# Altium schematic symbol library ZGR_SCHLib.SchLib: 77 symbols
Pins are listed as number, name and electrical type; pins without a type are passive.

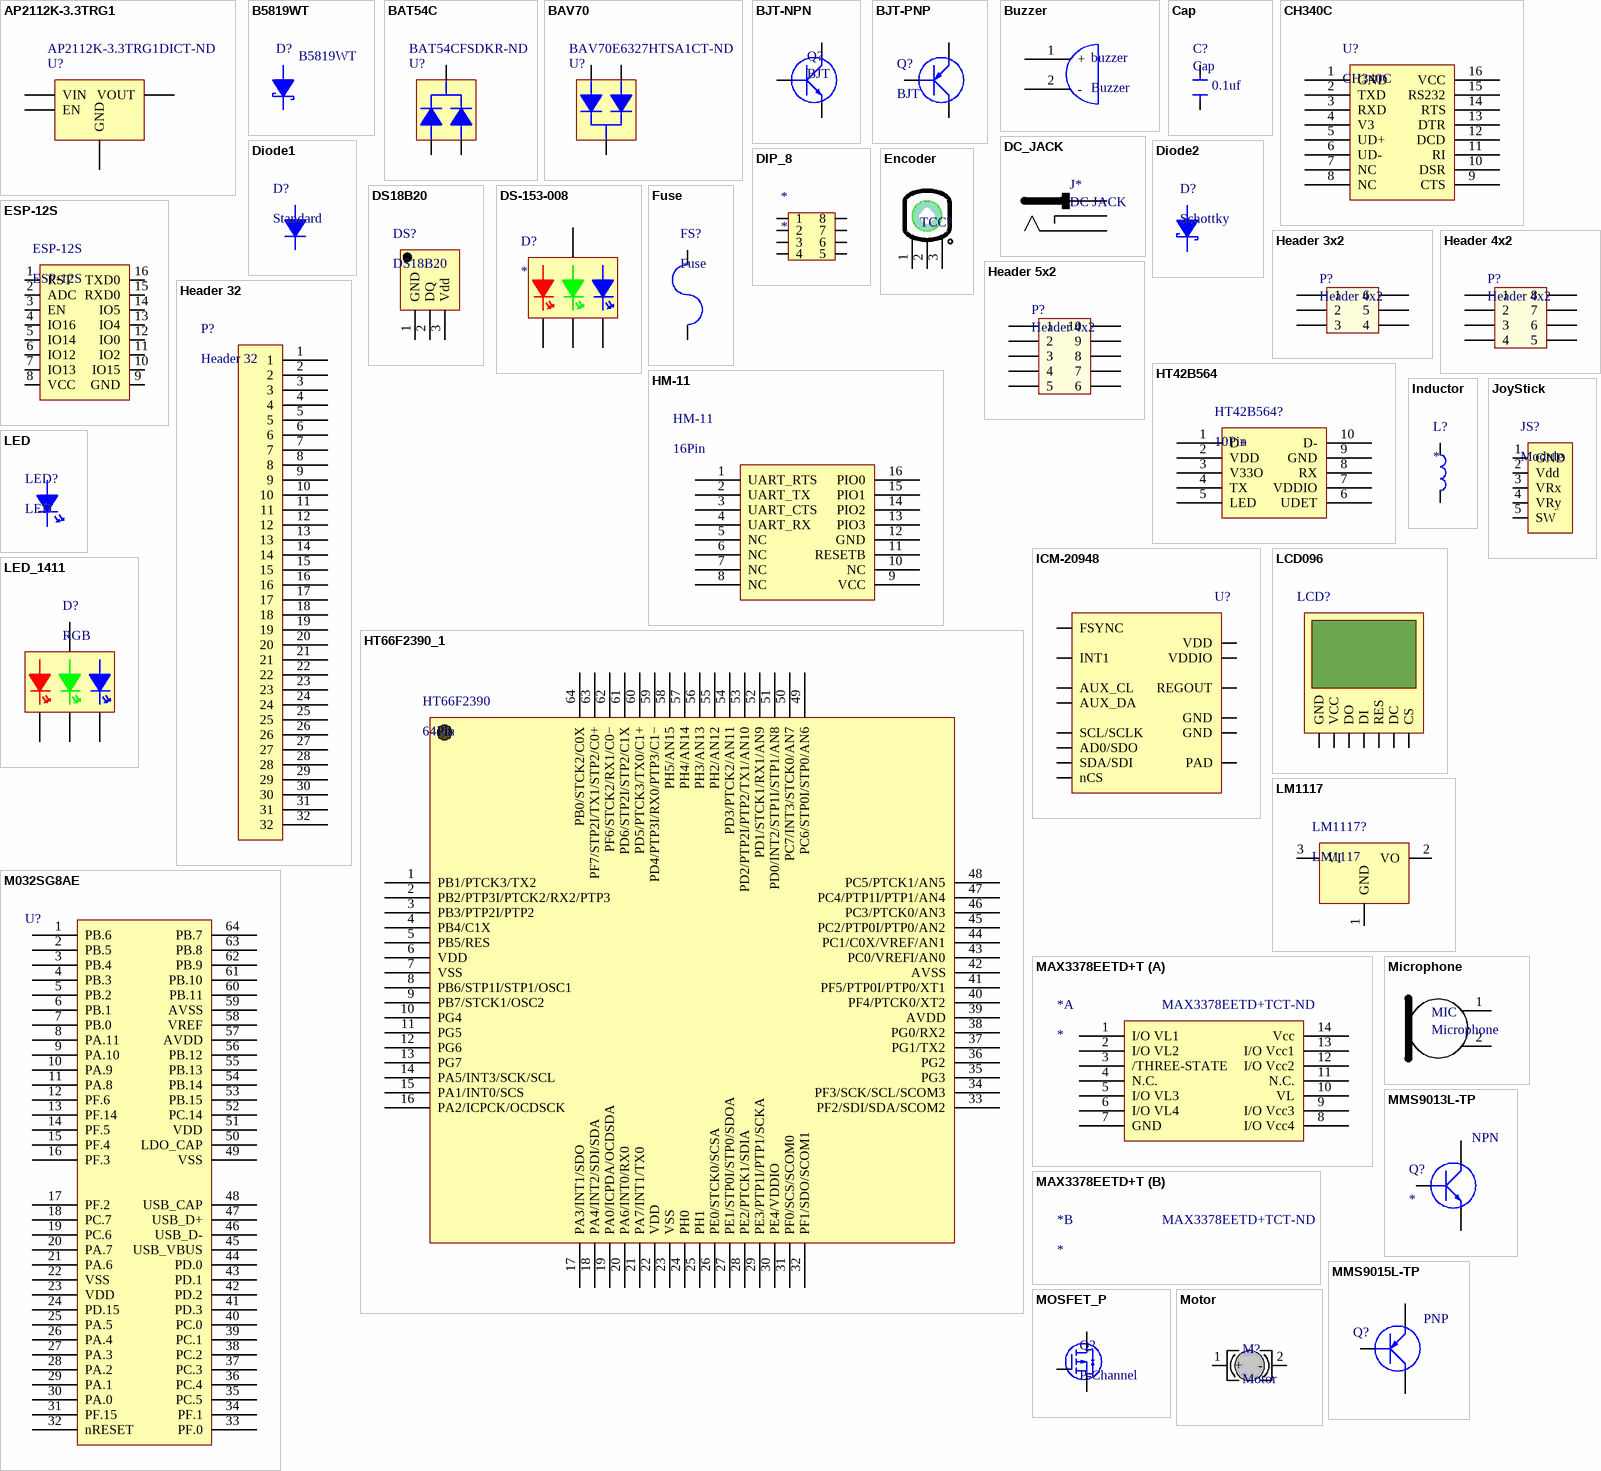
[diagram p0: symbols AP2112K-3.3TRG1 to Motor]

## AP2112K-3.3TRG1
designator U?  Supplier Part Number 1: AP2112K-3.3TRG1DICT-ND  (hidden comment: *)
IC REG LINEAR 3.3V 600MA SOT23-5; Manufacturer: Diodes; Manufacturer Part Number: AP2112K-3.3TRG1; Number of Regulators: 1; Quiescent Current: 55uA; Polarity: Positive; Max Input Voltage: 6V; Min Input Voltage: 2.5V; Accuracy: 1.5%; Dropout Voltage: 250mV; Output Type: Fixed; Supplier 1: Digi-Key; RoHS: Yes; Category: Voltage Regulators - Linear; Stock 1: 54786; Pricing 1: 1=0.47000, 10=0.35500, 25=0.32000, 100=0.17450, 250=0.16872, 500=0.15126, 1000=0.11636 (USD); Mount: Surface Mount; Case/Package: SOT-23-5; Number of Pins: 5; Min Operating Temperature: -40°C; Max Operating Temperature: 85°C; Output Current: 600mA; Max Output Current: 600mA; Output Voltage: 3.3V; Number of Outputs: 1; Package Quantity: 1; Packaging: Tape and Reel; Length: 3.1mm; Height: 1.3mm; Width: 1.7mm; Lead Free: Lead Free; ComponentLink1URL: https://datasheet.ciiva.com/29569/ap2112-29569919.pdf?src-supplier=Digi-Key; ComponentLink1Description: https://datasheet.ciiva.com/29569/ap2112-29569919.pdf?src-supplier=Digi-Key; ComponentLink2URL: https://datasheet.ciiva.com/30016/ap2112-30016792.pdf?src-supplier=Avnet; ComponentLink2Description: https://datasheet.ciiva.com/30016/ap2112-30016792.pdf?src-supplier=Avnet; ComponentLink3URL: https://datasheet.ciiva.com/29569/ap2112-29569917.pdf?src-supplier=Digi-Key; ComponentLink3Description: https://datasheet.ciiva.com/29569/ap2112-29569917.pdf?src-supplier=Digi-Key; ComponentLink4URL: https://datasheet.ciiva.com/29569/ap2112-29569918.pdf?src-supplier=Digi-Key; ComponentLink4Description: https://datasheet.ciiva.com/29569/ap2112-29569918.pdf?src-supplier=Digi-Key
footprint SOT23-5; pin to pad 2>3 3>2 4>5
pins: 1 VIN (power), 2 EN, 3 GND (power), 4 VOUT (power)

## B5819WT
designator D?  Supplier Part Number 1: B5819WT  (hidden comment: *)
Diode Schottky 40V 1A 2-Pin SOD-523 T/R; Manufacturer: MCC; Manufacturer Part Number: B5819W-TP; Max Reverse Voltage (DC): 20V; Element Configuration: Single; Forward Voltage: 550mV; Max Forward Surge Current (Ifsm): 10A; Peak Reverse Current: 1mA; Max Power Dissipation: 250mW; Supplier 1: Digi-Key; RoHS: Yes; Category: Rectifier Diodes; Stock 1: 1380; Pricing 1: 1=0.38000, 10=0.28000, 25=0.24520, 100=0.13300, 250=0.13232, 500=0.10850, 1000=0.08050 (USD); Mount: Surface Mount; Min Operating Temperature: -65°C; Max Operating Temperature: 125°C; Reverse Voltage (DC): 40V; Average Rectified Current: 1A; Package Quantity: 3000; Packaging: Tape and Reel; Forward Current: 1A; Max Repetitive Reverse Voltage (Vrrm): 40V; ComponentLink1URL: https://datasheet.ciiva.com/6378/b5817w-b5819wsod-123-6378255.pdf?src-supplier=Digi-Key; ComponentLink1Description: https://datasheet.ciiva.com/6378/b5817w-b5819wsod-123-6378255.pdf?src-supplier=Digi-Key
footprint SOD-523 (SODFL, 2-Leads, Body 0.80x1.60mm, IPC Medium Density)
pins: 1, 2

## BAT54C
designator U?  Supplier Part Number 1: BAT54CFSDKR-ND  (hidden comment: *)
ON SEMICONDUCTOR - BAT54C - DIODO, SCHOTTKY, 0.2A, 30V, SMD; Manufacturer: NXP Semiconductors; Element Configuration: Common Cathode; Max Forward Surge Current (Ifsm): 600mA; Reverse Recovery Time: 5ns; Forward Voltage: 800mV; Forward Current: 200mA; Current Rating: 200A; Capacitance: 10pF; Supplier 1: Digi-Key; Manufacturer Part Number: BAT54C; RoHS: Yes; Category: Rectifier Diodes; Stock 1: 22; Pricing 1: 1=0.26000, 10=0.21000 (USD); Case/Package: SOT-23-3; Number of Pins: 3; Min Operating Temperature: -55°C; Max Operating Temperature: 150°C; Packaging: Tape and Reel; Max Repetitive Reverse Voltage (Vrrm): 30V; Voltage Rating (DC): 30V; Termination: SMD/SMT; Voltage: 30V; Lead Free: Lead Free; REACH SVHC: No SVHC; ComponentLink1URL: http://www.farnell.com/datasheets/2304092.pdf?src-supplier=Farnell; ComponentLink1Description: http://www.farnell.com/datasheets/2304092.pdf?src-supplier=Farnell; ComponentLink2URL: https://www.distrelec.biz/Web/Downloads/_t/ds/bat54-series_eng_tds.pdf?mime=application%2Fpdf&src-supplier=Distrelec; ComponentLink2Description: https://www.distrelec.biz/Web/Downloads/_t/ds/bat54-series_eng_tds.pdf?mime=application%2Fpdf&src-supplier=Distrelec; ComponentLink3URL: https://media.digikey.com/pdf/Data%20Sheets/ON%20Semiconductor%20PDFs/BAT54(A,C,S).pdf?src-supplier=Digi-Key; ComponentLink3Description: https://media.digikey.com/pdf/Data%20Sheets/ON%20Semiconductor%20PDFs/BAT54(A,C,S).pdf?src-supplier=Digi-Key
footprint SOT-23
pins: 1, 2, 3

## BAV70
designator U?  Supplier Part Number 1: BAV70E6327HTSA1CT-ND  (hidden comment: *)
BAV70 Series 85 V 200 mA Surface Mount Silicon Switching Diode - SOT-23-3; Manufacturer: Infineon; Element Configuration: Dual; Reverse Recovery Time: 4ns; Max Repetitive Reverse Voltage (Vrrm): 70V; Forward Current: 200mA; Forward Voltage: 1V; Peak Reverse Current: 150nA; Peak Non-Repetitive Surge Current: 4.5A; Max Power Dissipation: 250mW; Voltage: 80V; Supplier 1: Digi-Key; Manufacturer Part Number: BAV70; RoHS: Yes; Category: Rectifier Diodes; Stock 1: 104435; Pricing 1: 1=0.20000, 10=0.18600, 25=0.17760, 100=0.07810, 250=0.07496, 500=0.06134, 1000=0.04260 (USD); Case/Package: SOT; Number of Pins: 3; Min Operating Temperature: -65°C; Max Operating Temperature: 150°C; Packaging: Cut Tape; Max Reverse Voltage (DC): 70V; Max Forward Surge Current (Ifsm): 4.5A; Termination: SMD/SMT; Current: 200mA; Breakdown Voltage: 70V; Length: 2.9mm; Height: 1mm; Width: 1.3mm; REACH SVHC: No SVHC; ComponentLink1URL: https://datasheet.ciiva.com/14091/xz603651-14091262.pdf?src-supplier=Distrelec; ComponentLink1Description: https://datasheet.ciiva.com/14091/xz603651-14091262.pdf?src-supplier=Distrelec
footprint SOT-23
pins: 1, 2, 3

## BJT-NPN
designator Q?, comment BJT
Supplier 1: Arrow
footprint SOT-23
footprint TO-92A
pins: 1, 2, 3

## BJT-PNP
designator Q?, comment BJT
footprint SOT-23; pin to pad 1>2 2>1
pins: 1, 2, 3

## Buzzer
designator buzzer
footprint CEM-1212C
footprint HN9650B-3
pins: 1 +, 2 -

## Cap
designator C?  value 0.1uf
footprint CAP_22UF_25V_5*5.4mm_SMD
footprint Cap_0603
footprint CAP_0402
footprint CAP_1206
pins: 1, 2

## CH340C
designator U?
footprint SOP-16 (SOP, 16-Leads, Body 10.30x3.81mm, Pitch 1.27mm, IPC Medium Density)
footprint SOP127P600X265-16N (SOP, 16-Leads, Body 10.30x3.90mm, Pitch 1.27mm, IPC Medium Density)
pins: 1 GND, 2 TXD, 3 RXD, 4 V3, 5 UD+, 6 UD-, 7 NC, 8 NC, 9 CTS, 10 DSR, 11 RI, 12 DCD, 13 DTR, 14 RTS, 15 RS232, 16 VCC

## DC_JACK
designator J*, comment DC JACK
footprint DC_JACK_2.5mm
pins: 1, 2, 3

## Diode1
designator D?, comment Standard
footprint SOD-80
pins: 1, 2

## Diode2
designator D?, comment Schottky
footprint SMA
footprint SOD-523 (SODFL, 2-Leads, Body 0.80x1.60mm, IPC Medium Density)
pins: 1, 2

## DIP_8
designator *
footprint DIP_8
pins: 1, 2, 3, 4, 5, 6, 7, 8

## DS18B20
designator DS?
footprint TO-92
pins: 1 GND, 2 DQ, 3 Vdd

## DS-153-008
designator D?
footprint LED_RGB_0603
pins: 1 G, 2 B, 3 Anode, 4 R

## Encoder
designator TCC?, comment TTC  (value not drawn)
footprint TTC_DECODER
pins: 1, 2, 3

## ESP-12S
designator ESP-12S
footprint ESP-12S
pins: 1 RST, 2 ADC, 3 EN, 4 IO16, 5 IO14, 6 IO12, 7 IO13, 8 VCC, 9 GND, 10 IO15, 11 IO2, 12 IO0, 13 IO4, 14 IO5, 15 RXD0, 16 TXD0

## Fuse
designator FS?
footprint 0805_PTC
pins: 1, 2

## Header 3x2
designator P?, comment Header 4x2
footprint Header_2.54_3*2
pins: 1, 2, 3, 4, 5, 6

## Header 4x2
designator P?
footprint Header_2.54_4*2
pins: 1, 2, 3, 4, 5, 6, 7, 8

## Header 5x2
designator P?, comment Header 4x2
footprint Header_2.54_5*2
pins: 1, 2, 3, 4, 5, 6, 7, 8, 9, 10

## Header 32
designator P?
footprint Header_2.54_32*1
footprint Header_2.54_32*2
pins: 1, 2, 3, 4, 5, 6, 7, 8, 9, 10, 11, 12, 13, 14, 15, 16, 17, 18, 19, 20, 21, 22, 23, 24, 25, 26, 27, 28, 29, 30, 31, 32

## HM-11
designator HM-11, comment 16Pin
footprint HM-11&13
pins: 1 UART_RTS, 2 UART_TX, 3 UART_CTS, 4 UART_RX, 5 NC, 6 NC, 7 NC, 8 NC, 9 VCC, 10 NC, 11 RESETB, 12 GND, 13 PIO3, 14 PIO2, 15 PIO1, 16 PIO0

## HT42B564
designator HT42B564?, comment 10Pin
footprint SOP-10
pins: 1 D+, 2 VDD, 3 V33O, 4 TX, 5 LED, 6 UDET, 7 VDDIO, 8 RX, 9 GND, 10 D-

## HT66F2390_1
designator HT66F2390, comment 64Pin
footprint HLQFP-64(7mm*7mm) (HLQFP64(7mm*7mm))
pins: 1 PB1/PTCK3/TX2, 2 PB2/PTP3I/PTCK2/RX2/PTP3, 3 PB3/PTP2I/PTP2, 4 PB4/C1X, 5 PB5/RES, 6 VDD, 7 VSS, 8 PB6/STP1I/STP1/OSC1, 9 PB7/STCK1/OSC2, 10 PG4, 11 PG5, 12 PG6, 13 PG7, 14 PA5/INT3/SCK/SCL, 15 PA1/INT0/SCS, 16 PA2/ICPCK/OCDSCK, 17 PA3/INT1/SDO, 18 PA4/INT2/SDI/SDA, 19 PA0/ICPDA/OCDSDA, 20 PA6/INT0/RX0, 21 PA7/INT1/TX0, 22 VDD, 23 VSS, 24 PH0, 25 PH1, 26 PE0/STCK0/SCSA, 27 PE1/STP0I/STP0/SDOA, 28 PE2/PTCK1/SDIA, 29 PE3/PTP1I/PTP1/SCKA, 30 PE4/VDDIO, 31 PF0/SCS/SCOM0, 32 PF1/SDO/SCOM1, 33 PF2/SDI/SDA/SCOM2, 34 PF3/SCK/SCL/SCOM3, 35 PG3, 36 PG2, 37 PG1/TX2, 38 PG0/RX2, 39 AVDD, 40 PF4/PTCK0/XT2, 41 PF5/PTP0I/PTP0/XT1, 42 AVSS, 43 PC0/VREFI/AN0, 44 PC1/C0X/VREF/AN1, 45 PC2/PTP0I/PTP0/AN2, 46 PC3/PTCK0/AN3, 47 PC4/PTP1I/PTP1/AN4, 48 PC5/PTCK1/AN5, 49 PC6/STP0I/STP0/AN6, 50 PC7/INT3/STCK0/AN7, 51 PD0/INT2/STP1I/STP1/AN8, 52 PD1/STCK1/RX1/AN9, 53 PD2/PTP2I/PTP2/TX1/AN10, 54 PD3/PTCK2/AN11, 55 PH2/AN12, 56 PH3/AN13, 57 PH4/AN14, 58 PH5/AN15, 59 PD4/PTP3I/RX0/PTP3/C1−, 60 PD5/PTCK3/TX0/C1+, 61 PD6/STP2I/STP2/C1X, 62 PF6/STCK2/RX1/C0−, 63 PF7/STP2I/TX1/STP2/C0+, 64 PB0/STCK2/C0X

## ICM-20948
designator U?  (value not drawn)
Accelerometer, Gyroscope, Magnetometer, 9 Axis Sensor IÂ²C, SPI Output; MF: TDK InvenSense; MP: ICM-20948; Availability: Unavailable; SnapEDA_Link: https://www.snapeda.com/parts/ICM-20948/TDK%20InvenSense/view-part/578927/?ref=snap; Price: None; Value: *; Package: QFN-24 InvenSense
footprint QFN_24_3X3
pins: 7 AUX_CL, 8 VDDIO, 9 AD0/SDO, 10 REGOUT, 11 FSYNC, 12 INT1, 13 VDD, 18 GND, 20 GND, 21 AUX_DA, 22 nCS, 23 SCL/SCLK, 24 SDA/SDI, 25 PAD

## Inductor
designator L?
footprint Inductor_0603
footprint CAP_0402
pins: 1, 2

## JoyStick
designator JS?, comment Module
footprint JoyStick_Module
pins: 1 GND, 2 Vdd, 3 VRx, 4 VRy, 5 SW

## LCD096
designator LCD?  (value not drawn)
footprint LCD096
pins: 1 GND, 2 VCC, 3 DO, 4 DI, 5 RES, 6 DC, 7 CS

## LED
designator LED?
footprint SMD-0603_LED
footprint LED_3mm_DIP
pins: 1, 2

## LED_1411
designator D?, comment RGB
footprint 1411_LED
pins: 1 Anode, 2 B, 3 R, 4 G

## LM1117
designator LM1117?
footprint SOT-223
pins: 1 GND, 2 VO, 3 VI

## M032SG8AE
designator U?  (value not drawn)
footprint MCU_LQFP_64_7x7
pins: 1 PB.6, 2 PB.5, 3 PB.4, 4 PB.3, 5 PB.2, 6 PB.1, 7 PB.0, 8 PA.11, 9 PA.10, 10 PA.9, 11 PA.8, 12 PF.6, 13 PF.14, 14 PF.5, 15 PF.4, 16 PF.3, 17 PF.2, 18 PC.7, 19 PC.6, 20 PA.7, 21 PA.6, 22 VSS, 23 VDD, 24 PD.15, 25 PA.5, 26 PA.4, 27 PA.3, 28 PA.2, 29 PA.1, 30 PA.0, 31 PF.15, 32 nRESET, 33 PF.0, 34 PF.1, 35 PC.5, 36 PC.4, 37 PC.3, 38 PC.2, 39 PC.1, 40 PC.0, 41 PD.3, 42 PD.2, 43 PD.1, 44 PD.0, 45 USB_VBUS, 46 USB_D-, 47 USB_D+, 48 USB_CAP, 49 VSS, 50 LDO_CAP, 51 VDD, 52 PC.14, 53 PB.15, 54 PB.14, 55 PB.13, 56 PB.12, 57 AVDD, 58 VREF, 59 AVSS, 60 PB.11, 61 PB.10, 62 PB.9, 63 PB.8, 64 PB.7

## MAX3378EETD+T
designator *  Supplier Part Number 1: MAX3378EETD+TCT-ND
MAXIM INTEGRATED PRODUCTS         MAX3378EETD+T             Low-Voltage Level Translator, 4 Input, 210 ns, 1.65 V to 5.5 V, TDFN-14; Low Level Output Current: 20uA; High Level Output Current: -20uA; Output Type: 3-STATE; Data Rate: 16Mbps; Max Supply Voltage: 5.5V; Min Supply Voltage: 1.65V; Propagation Delay: 15ns; Number of Channels: 4; Supplier 1: Digi-Key; Manufacturer: Maxim; Manufacturer Part Number: MAX3378EETD+T; RoHS: Yes; Category: Voltage Level Shifters; Stock 1: 17889; Pricing 1: 1=3.94000, 10=3.53400, 25=3.34120, 100=2.89580, 250=2.74724, 500=2.46510, 1000=2.14500 (USD); Number of Pins: 14; Min Operating Temperature: -40°C; Max Operating Temperature: 85°C; Logic Function: Translator; Packaging: Tape and Reel; Package Quantity: 1; Number of Bits: 4; Series: -; Number of Inputs: 4; Radiation Hardening: No; RoHS Compliant: Yes; REACH SVHC: Unknown; ComponentLink1URL: https://datasheet.ciiva.com/17370/max3372e-max3393e-17370087.pdf?src-supplier=Avnet+Europe; ComponentLink1Description: https://datasheet.ciiva.com/17370/max3372e-max3393e-17370087.pdf?src-supplier=Avnet+Europe; ComponentLink2URL: https://datasheet.ciiva.com/1900/max3372e-max3393e-1900076.pdf?src-supplier=Digi-Key; ComponentLink2Description: https://datasheet.ciiva.com/1900/max3372e-max3393e-1900076.pdf?src-supplier=Digi-Key; ComponentLink3URL: https://datasheet.ciiva.com/1900/max3372e-max3393e-1900078.pdf?src-supplier=Digi-Key; ComponentLink3Description: https://datasheet.ciiva.com/1900/max3372e-max3393e-1900078.pdf?src-supplier=Digi-Key; ComponentLink4URL: https://datasheet.ciiva.com/1900/max3372e-max3393e-1900077.pdf?src-supplier=Digi-Key; ComponentLink4Description: https://datasheet.ciiva.com/1900/max3372e-max3393e-1900077.pdf?src-supplier=Digi-Key; ComponentLink5URL: https://datasheet.ciiva.com/14287/max3372e-max3393e-14287422.pdf?src-supplier=Avnet; ComponentLink5Description: https://datasheet.ciiva.com/14287/max3372e-max3393e-14287422.pdf?src-supplier=Avnet
footprint SON40P300X265_HS-15N (SON, 14-Leads, Body 3.00x3.00mm, Pitch 0.40mm, Thermal Pad 2.30x1.70mm, IPC Medium Density)
part A pins: 1 I/O VL1, 2 I/O VL2, 3 /THREE-STATE, 4 N.C., 5 I/O VL3, 6 I/O VL4, 7 GND, 8 I/O Vcc4, 9 I/O Vcc3, 10 VL, 11 N.C., 12 I/O Vcc2, 13 I/O Vcc1, 14 Vcc

## Microphone
designator MIC
footprint MIC_6mm
pins: 1, 2

## MMS9013L-TP
designator Q?  Polarity: NPN
Trans GP BJT NPN 25V 0.5A 3-Pin SOT-23 T/R; Manufacturer: MCC; Manufacturer Part Number: MMS9013L-TP; Frequency: 150MHz; Number of Elements: 1; Collector Base Voltage (VCBO): 40V; Emitter Base Voltage (VEBO): 5V; Power Dissipation: 300mW; RoHS: Yes; Category: BJTs; Mount: Surface Mount; Case/Package: SOT-23; Number of Pins: 3; Min Operating Temperature: -55°C; Max Operating Temperature: 150°C; Packaging: Tape and Reel; Collector Emitter Voltage (VCEO): 25V; ComponentLink1URL: http://components.arrow.com/part/dataview/51062823S110403N2022?src-supplier=Arrow; ComponentLink1Description: http://components.arrow.com/part/dataview/51062823S110403N2022?src-supplier=Arrow; Supplier 1: Arrow; Supplier Part Number 1: MMS9013-L-TP
footprint SOT-23; pin to pad 1>3 2>1 3>2
pins: 1, 2, 3

## MMS9015L-TP
designator Q?  Polarity: PNP  (hidden comment: *)
Trans GP BJT PNP 45V 0.1A 3-Pin SOT-23 T/R; Manufacturer: MCC; Manufacturer Part Number: MMS9015L-TP; Frequency: 150MHz; Collector Base Voltage (VCBO): 50V; Emitter Base Voltage (VEBO): 5V; Number of Elements: 1; Power Dissipation: 200mW; Supplier 1: Future Electronics; RoHS: Yes; Category: Uncategorized; Mount: Surface Mount; Case/Package: SOT-23; Number of Pins: 3; Min Operating Temperature: -55°C; Max Operating Temperature: 150°C; Packaging: Tape and Reel; Collector Emitter Voltage (VCEO): 45V; Radiation Hardening: No; Lead Free: Lead Free; ComponentLink1URL: https://datasheet.ciiva.com/17380/mms9015l-tp-17380301.pdf?src-supplier=Future+Electronics; ComponentLink1Description: https://datasheet.ciiva.com/17380/mms9015l-tp-17380301.pdf?src-supplier=Future+Electronics; ComponentLink2URL: https://datasheet.ciiva.com/15200/getdatasheetpartid-692159-15200530.pdf?src-supplier=Verical; ComponentLink2Description: https://datasheet.ciiva.com/15200/getdatasheetpartid-692159-15200530.pdf?src-supplier=Verical; Supplier Part Number 1: MMS9015L-TP
footprint SOT-23; pin to pad 1>2 2>1
pins: 1, 2, 3

## MOSFET_P
designator Q?, comment P-Channel
footprint SOT-23; pin to pad 1>2 2>1
pins: 1, 2, 3

## Motor
designator M?
footprint vibrating_10mm
pins: 1 +, 2 -

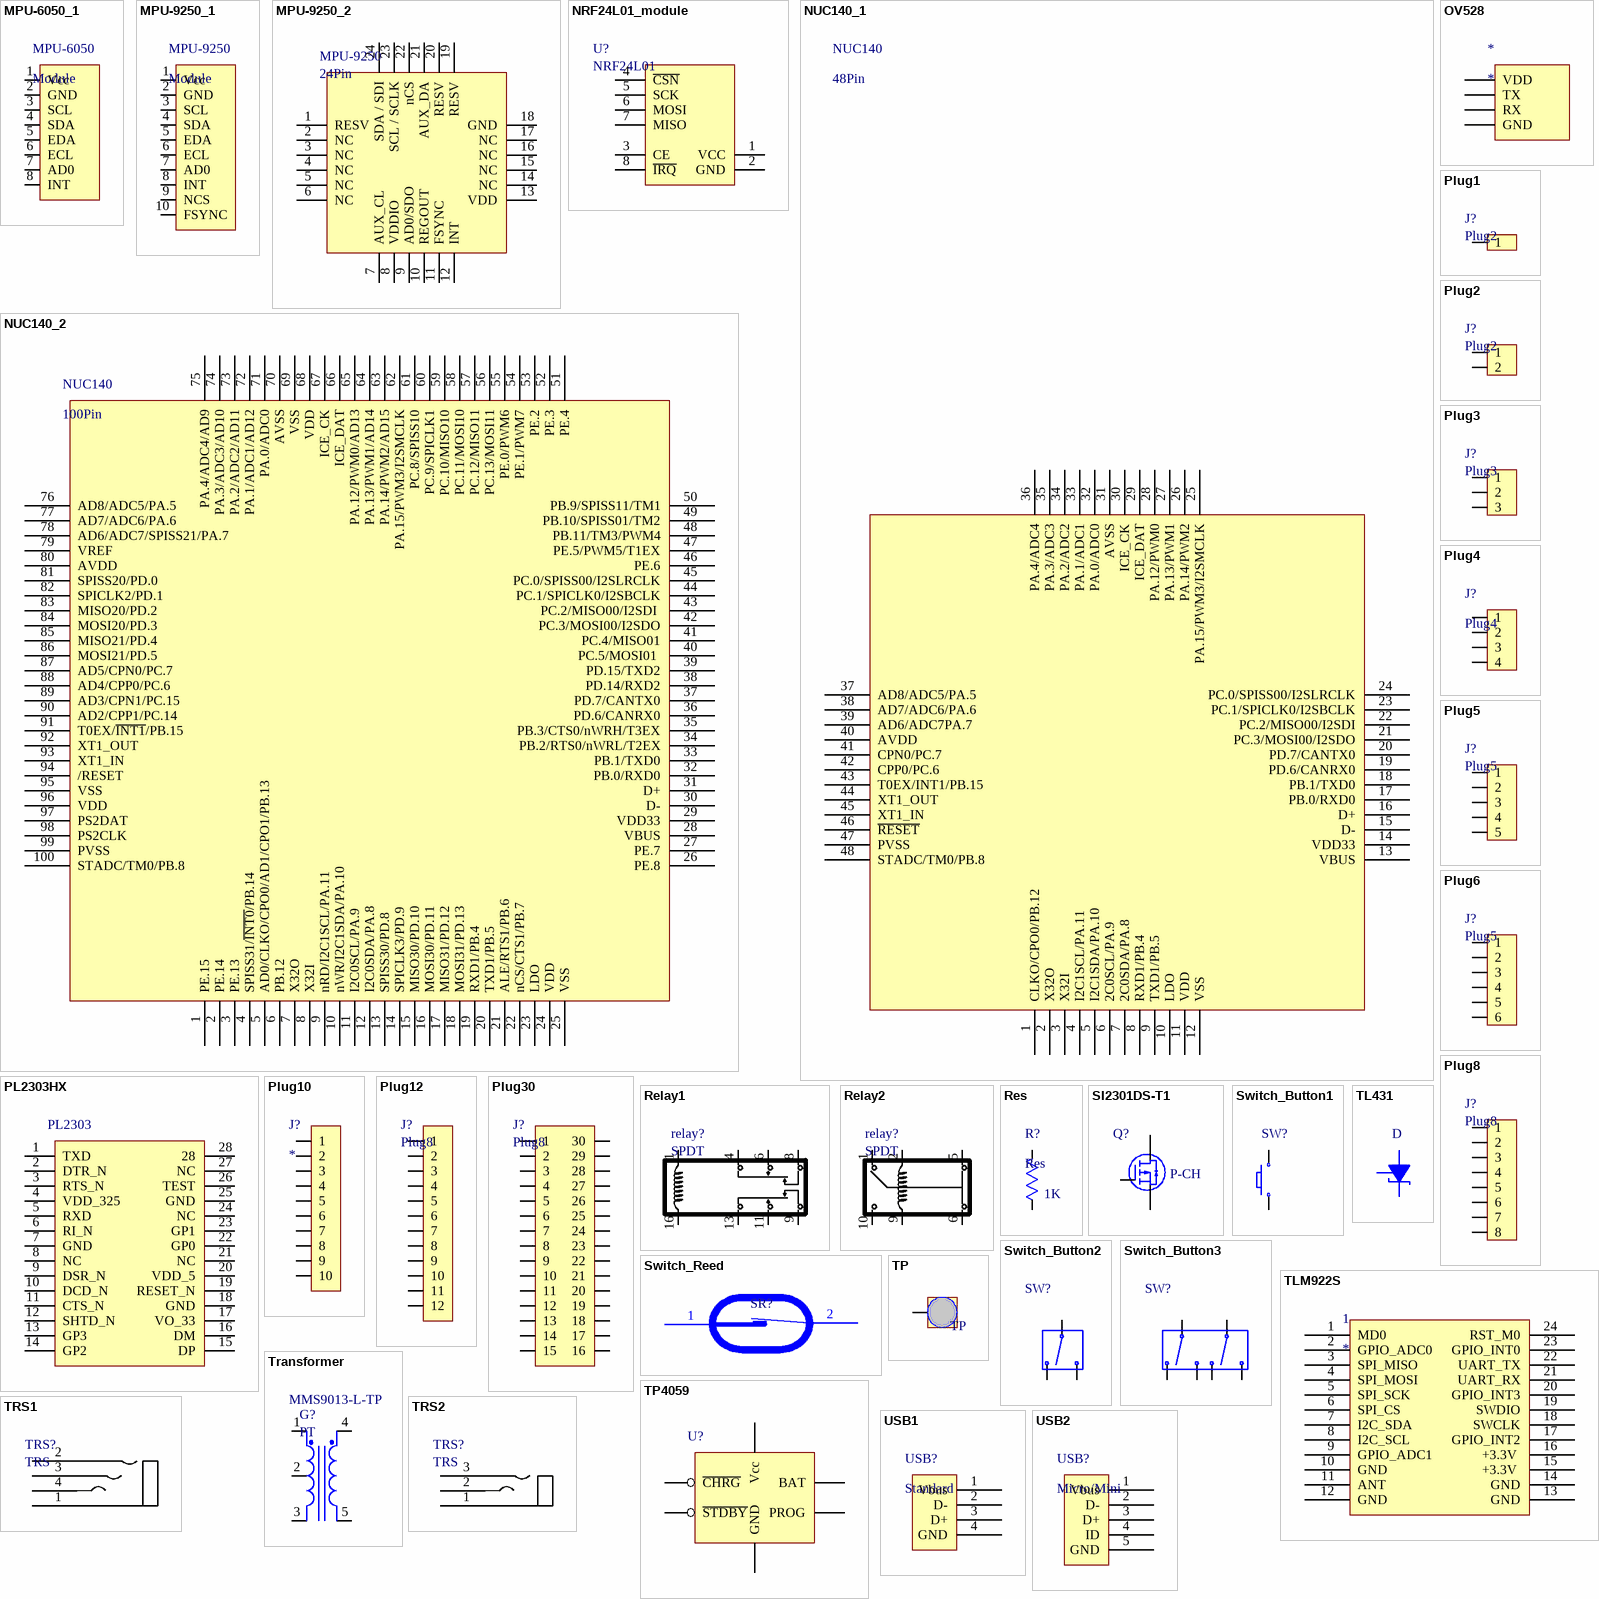
[diagram p1: symbols MPU-6050_1 to USB2]

## MPU-6050_1
designator MPU-6050, comment Module
footprint MPU-6050_module
pins: 1 Vcc, 2 GND, 3 SCL, 4 SDA, 5 EDA, 6 ECL, 7 AD0, 8 INT

## MPU-9250_1
designator MPU-9250, comment Module
footprint MPU-9250_module
pins: 1 Vcc, 2 GND, 3 SCL, 4 SDA, 5 EDA, 6 ECL, 7 AD0, 8 INT, 9 NCS, 10 FSYNC

## MPU-9250_2
designator MPU-9250, comment 24Pin
footprint QFN_24PIN
footprint QFN_24PIN _2
footprint QFN_24PIN _1
pins: 1 RESV, 2 NC, 3 NC, 4 NC, 5 NC, 6 NC, 7 AUX_CL, 8 VDDIO, 9 AD0/SDO, 10 REGOUT, 11 FSYNC, 12 INT, 13 VDD, 14 NC, 15 NC, 16 NC, 17 NC, 18 GND, 19 RESV, 20 RESV, 21 AUX_DA, 22 nCS, 23 SCL / SCLK, 24 SDA / SDI

## NRF24L01_module
designator U?, comment NRF24L01
footprint NRF24L01_Module_SMD; pin to pad 1>2 2>1
footprint NRF24L01_with_Antenna
footprint NRF24L01P+PA+LNA+IPX; pin to pad 2>8 3>2 4>3 5>4 6>5 7>6 8>7
pins: 1 VCC (power), 2 GND (power), 3 CE, 4 ~{CSN}, 5 SCK, 6 MOSI, 7 MISO, 8 ~{IRQ}

## NUC140_1
designator NUC140, comment 48Pin
footprint HLQFP-48(7mm*7mm)
pins: 1 CLKO/CPO0/PB.12, 2 X32O, 3 X32I, 4 I2C1SCL/PA.11, 5 I2C1SDA/PA.10, 6 2C0SCL/PA.9, 7 2C0SDA/PA.8, 8 RXD1/PB.4, 9 TXD1/PB.5, 10 LDO, 11 VDD, 12 VSS, 13 VBUS, 14 VDD33, 15 D-, 16 D+, 17 PB.0/RXD0, 18 PB.1/TXD0, 19 PD.6/CANRX0, 20 PD.7/CANTX0, 21 PC.3/MOSI00/I2SDO, 22 PC.2/MISO00/I2SDI, 23 PC.1/SPICLK0/I2SBCLK, 24 PC.0/SPISS00/I2SLRCLK, 25 PA.15/PWM3/I2SMCLK, 26 PA.14/PWM2, 27 PA.13/PWM1, 28 PA.12/PWM0, 29 ICE_DAT, 30 ICE_CK, 31 AVSS, 32 PA.0/ADC0, 33 PA.1/ADC1, 34 PA.2/ADC2, 35 PA.3/ADC3, 36 PA.4/ADC4, 37 AD8/ADC5/PA.5, 38 AD7/ADC6/PA.6, 39 AD6/ADC7PA.7, 40 AVDD, 41 CPN0/PC.7, 42 CPP0/PC.6, 43 T0EX/INT1/PB.15, 44 XT1_OUT, 45 XT1_IN, 46 ~{RESET}, 47 PVSS, 48 STADC/TM0/PB.8

## NUC140_2
designator NUC140, comment 100Pin
footprint HLQFP-100(14mm*14mm)
pins: 1 PE.15, 2 PE.14, 3 PE.13, 4 SPISS31/~{INT0}/PB.14, 5 AD0/CLKO/CPO0/AD1/CPO1/PB.13, 6 PB.12, 7 X32O, 8 X32I, 9 nRD/I2C1SCL/PA.11, 10 nWR/I2C1SDA/PA.10, 11 I2C0SCL/PA.9, 12 I2C0SDA/PA.8, 13 SPISS30/PD.8, 14 SPICLK3/PD.9, 15 MISO30/PD.10, 16 MOSI30/PD.11, 17 MISO31/PD.12, 18 MOSI31/PD.13, 19 RXD1/PB.4, 20 TXD1/PB.5, 21 ALE/RTS1/PB.6, 22 nCS/CTS1/PB.7, 23 LDO, 24 VDD, 25 VSS, 26 PE.8, 27 PE.7, 28 VBUS, 29 VDD33, 30 D-, 31 D+, 32 PB.0/RXD0, 33 PB.1/TXD0, 34 PB.2/RTS0/nWRL/T2EX, 35 PB.3/CTS0/nWRH/T3EX, 36 PD.6/CANRX0, 37 PD.7/CANTX0, 38 PD.14/RXD2, 39 PD.15/TXD2, 40 PC.5/MOSI01 , 41 PC.4/MISO01, 42 PC.3/MOSI00/I2SDO, 43 PC.2/MISO00/I2SDI , 44 PC.1/SPICLK0/I2SBCLK, 45 PC.0/SPISS00/I2SLRCLK, 46 PE.6, 47 PE.5/PWM5/T1EX, 48 PB.11/TM3/PWM4, 49 PB.10/SPISS01/TM2, 50 PB.9/SPISS11/TM1, 51 PE.4, 52 PE.3, 53 PE.2, 54 PE.1/PWM7, 55 PE.0/PWM6, 56 PC.13/MOSI11, 57 PC.12/MISO11, 58 PC.11/MOSI10, 59 PC.10/MISO10, 60 PC.9/SPICLK1, 61 PC.8/SPISS10, 62 PA.15/PWM3/I2SMCLK, 63 PA.14/PWM2/AD15, 64 PA.13/PWM1/AD14, 65 PA.12/PWM0/AD13, 66 ICE_DAT, 67 ICE_CK, 68 VDD, 69 VSS, 70 AVSS, 71 PA.0/ADC0, 72 PA.1/ADC1/AD12, 73 PA.2/ADC2/AD11, 74 PA.3/ADC3/AD10, 75 PA.4/ADC4/AD9, 76 AD8/ADC5/PA.5, 77 AD7/ADC6/PA.6, 78 AD6/ADC7/SPISS21/PA.7, 79 VREF, 80 AVDD, 81 SPISS20/PD.0, 82 SPICLK2/PD.1, 83 MISO20/PD.2, 84 MOSI20/PD.3, 85 MISO21/PD.4 , 86 MOSI21/PD.5, 87 AD5/CPN0/PC.7, 88 AD4/CPP0/PC.6, 89 AD3/CPN1/PC.15, 90 AD2/CPP1/PC.14 , 91 T0EX/~{INT1}/PB.15, 92 XT1_OUT, 93 XT1_IN, 94 /RESET, 95 VSS, 96 VDD, 97 PS2DAT, 98 PS2CLK, 99 PVSS, 100 STADC/TM0/PB.8

## OV528
designator *
footprint OV528; pin to pad 0>3 3>0
pins: 0 VDD, 1 TX, 2 RX, 3 GND

## PL2303HX
designator PL2303, comment 28Pin  (value not drawn)
footprint SSOP28
pins: 1 TXD, 2 DTR_N, 3 RTS_N, 4 VDD_325, 5 RXD, 6 RI_N, 7 GND, 8 NC, 9 DSR_N, 10 DCD_N, 11 CTS_N, 12 SHTD_N, 13 GP3, 14 GP2, 15 DP, 16 DM, 17 VO_33, 18 GND, 19 RESET_N, 20 VDD_5, 21 NC, 22 GP0, 23 GP1, 24 NC, 25 GND, 26 TEST, 27 NC, 28

## Plug1
designator J?, comment Plug2
footprint test_point
pins: 1

## Plug2
designator J?
footprint Terminal_block_2pin_1.25mm_SMD
footprint JST_2P_2.5mm_7.5mm
footprint JST_2P_2.5mm_11.5mm
pins: 1, 2

## Plug3
designator J?
footprint Terminal_block_3pin_1.25mm_SMD
footprint JST_3P_2.5mm_11.5mm
pins: 1, 2, 3

## Plug4
designator J?
footprint JST_2.0mm_4pin_180
pins: 1, 2, 3, 4

## Plug5
designator J?
footprint GH_1.25mm_Thru_5pin
pins: 1, 2, 3, 4, 5

## Plug6
designator J?, comment Plug5
footprint FPC0.5-6PS
pins: 1, 2, 3, 4, 5, 6

## Plug8
designator J?
footprint Terminal_block_8pin_1.25mm_SMD
pins: 1, 2, 3, 4, 5, 6, 7, 8

## Plug10
designator J?
footprint FPC0.5-10PS
pins: 1, 2, 3, 4, 5, 6, 7, 8, 9, 10

## Plug12
designator J?, comment Plug8
footprint FPC0.5-12PS
pins: 1, 2, 3, 4, 5, 6, 7, 8, 9, 10, 11, 12

## Plug30
designator J?, comment Plug8
footprint FPC0.5-30PS
pins: 1, 2, 3, 4, 5, 6, 7, 8, 9, 10, 11, 12, 13, 14, 15, 16, 17, 18, 19, 20, 21, 22, 23, 24, 25, 26, 27, 28, 29, 30

## Relay1
designator relay?, comment SPDT
footprint RY5W-K
pins: 1, 4, 6, 8, 9, 11, 13, 16

## Relay2
designator relay?, comment SPDT
footprint SY-05-K
pins: 1, 2, 5, 6, 9, 10

## Res
designator R?  value 1K
footprint RES_0603
footprint RES_0402
pins: 1, 2

## SI2301DS-T1
designator Q?  Polarity: P-CH  (hidden comment: *)
Trans MOSFET P-CH 20V 2.3A 3-Pin TO-236 T/R; Manufacturer: Vishay Siliconix; Manufacturer Part Number: SI2301DS-T1; Rise Time: 36ns; Drain to Source Resistance: 130mR; Gate to Source Voltage (Vgs): 8V; Max Power Dissipation: 1.25W; Turn-Off Delay Time: 42ns; Turn-On Delay Time: 13ns; Number of Elements: 1; Element Configuration: Single; Drain to Source Voltage (Vdss): -20V; Supplier 1: Component Sense; RoHS: No; Category: MOSFETs; Stock 1: 12531; Pricing 1: 143=0.17500, 500=0.15000, 1000=0.10000, 5000=0.09000, 10000=0.08000 (USD); Mount: Surface Mount; Case/Package: SOT-23-3; Number of Pins: 3; Weight: 0.050717oz; Min Operating Temperature: -55°C; Max Operating Temperature: 150°C; Packaging: Tape and Reel; Package Quantity: 3000; Continuous Drain Current (ID): 2.3A; Fall Time: 36ns; Power Dissipation: 1.25W; Number of Channels: 1; Length: 3.04mm; Height: 1.02mm; Width: 1.4mm; ComponentLink1URL: https://datasheet.ciiva.com/13048/70627-115154-13048148.pdf?src-supplier=Mouser; ComponentLink1Description: https://datasheet.ciiva.com/13048/70627-115154-13048148.pdf?src-supplier=Mouser; Supplier Part Number 1: SI2301DS-T1
footprint SOT-23; pin to pad 1>2 2>1
pins: 1, 2, 3

## Switch_Button1
designator SW?, comment SPST  (value not drawn)
footprint TACK-SW 4P 6x6mm
footprint TACK-SW_SMD 2P 4x3mm
footprint TACK-SW_SMD 2P 4x3mm_2
footprint TACK-SW 4P 12x12mm
footprint TACK-SW_SMD 1P 6x3.5mm
footprint IT-1100AAEP-G
footprint ST01-111
pins: 1, 2

## Switch_Button2
designator SW?, comment SPDT  (value not drawn)
footprint SS-SK-02P
footprint Slide_SW_3P_13*6mm
footprint Slide_SW_3P_12.54*6.66mm
footprint Slide_switch 3.5*8.5
pins: 1, 2, 3

## Switch_Button3
designator SW?, comment DPDT  (value not drawn)
footprint PB-22EXX
footprint PB-22EXX; pin to pad 1>2 2>1 5>6 6>5
pins: 1, 2, 3, 4, 5, 6

## Switch_Reed
designator SR?, comment SPST  (value not drawn)
footprint GR-560
pins: 1, 2

## TL431
designator D
footprint SOT-23
pins: 1, 2, 3

## TLM922S
designator 1
footprint TLM922S (Chip Array, Flat, 24-Leads, Pitch 2.00mm,  Body 23.50x25.20mm,  IPC Medium Density)
pins: 1 MD0, 2 GPIO_ADC0, 3 SPI_MISO, 4 SPI_MOSI, 5 SPI_SCK, 6 SPI_CS, 7 I2C_SDA, 8 I2C_SCL, 9 GPIO_ADC1, 10 GND, 11 ANT, 12 GND, 13 GND, 14 GND, 15 +3.3V , 16 +3.3V , 17 GPIO_INT2, 18 SWCLK, 19 SWDIO, 20 GPIO_INT3, 21 UART_RX, 22 UART_TX, 23 GPIO_INT0, 24 RST_M0

## TP
designator TP?
footprint TP
pins: 1

## TP4059
designator U?  (value not drawn)
600MA SOT23-6; ComponentLink1Description: Datasheet; ComponentLink1URL: http://www.tp-asic.com/res/tp-asic/pdres/201403/TP4059.pdf
footprint SOT23-6; pin to pad 1>4 2>1 3>5 4>2 5>6 6>3
pins: 1 Vcc (power), 2 ~{CHRG}, 3 ~{STDBY} (oc), 4 GND (power), 5 PROG, 6 BAT (power)

## Transformer
designator G?, comment PT  Supplier Part Number 2: MMS9013-L-TP
Trans GP BJT NPN 25V 0.5A 3-Pin SOT-23 T/R; Manufacturer: MCC; Manufacturer Part Number: MMS9013L-TP; Power Dissipation: 300mW; Frequency: 150MHz; Number of Elements: 1; Collector Base Voltage (VCBO): 40V; Emitter Base Voltage (VEBO): 5V; Supplier 1: Arrow; RoHS: Yes; Category: BJTs; Mount: Surface Mount; Case/Package: SOT-23; Number of Pins: 3; Min Operating Temperature: -55°C; Max Operating Temperature: 150°C; Packaging: Tape and Reel; Polarity: NPN; Collector Emitter Voltage (VCEO): 25V; Supplier 2: Arrow; ComponentLink1URL: http://components.arrow.com/part/dataview/51062823S110403N2022?src-supplier=Arrow; ComponentLink1Description: http://components.arrow.com/part/dataview/51062823S110403N2022?src-supplier=Arrow
footprint TF
pins: 1, 2, 3, 4, 5

## TRS1
designator TRS?, comment TRS
footprint TRS_3.5mm_S_SMT
footprint TRS_3.5mm_S_HOLE
pins: 1, 2, 3, 4

## TRS2
designator TRS?, comment TRS
footprint PJ-320B_Dip
pins: 1, 2, 3

## USB1
designator USB?, comment Standard
footprint USB_Type-A_P_Thru-Hole
pins: 1 Vbus, 2 D-, 3 D+, 4 GND

## USB2
designator USB?, comment Micro/Mini
footprint USB_Mini-B_S_SMT
footprint USB_Micro-B_S_SMT
footprint USB_Mini-B_S_DIP
footprint USB_Micro-B_S_DIP_180
pins: 1 Vbus, 2 D-, 3 D+, 4 ID, 5 GND

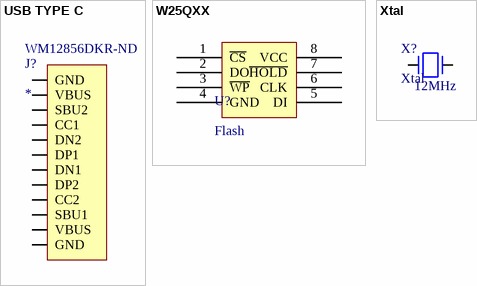
[diagram p2: symbols USB TYPE C to Xtal]

## USB TYPE C
designator J?  Supplier Part Number 1: WM12856DKR-ND
USB Shielded I/O Receptacle; Type C; Right Angle; Surface Mount; Gold over Nickel; Manufacturer: Molex; Manufacturer Part Number: 105450-0101; Number of Contacts: 24; Current Rating: 5A; Mating Cycles: 10000; USB Standard: USB 3.1; Number of Ports: 1; Pitch: 0.5mm; Supplier 1: Digi-Key; RoHS: Yes; Category: Connectors; Stock 1: 21711; Pricing 1: 1=2.15000, 10=1.94900, 25=1.82960, 50=1.75000, 100=1.67050, 250=1.51140, 500=1.39208 (USD); Mount: Surface Mount,Through Hole,Horizontal; Case/Package: 0101; Number of Pins: 24; Contact Plating: Gold; Contact Material: Copper Alloy; Housing Material: Thermoplastic; Insulation Color: Black; Number of Terminals: 24; Min Operating Temperature: -30°C; Max Operating Temperature: 85°C; Packaging: Tape and Reel; Gender: Receptacle; Connector Type: USB; Orientation: Right Angle; Termination: Solder; Shielding: Shielded; Features: Shielded; Length: 8.94mm; REACH SVHC: Unknown; Flammability Rating: UL94 V-0; ComponentLink1URL: http://www.farnell.com/datasheets/2801634.pdf?src-supplier=Farnell; ComponentLink1Description: http://www.farnell.com/datasheets/2801634.pdf?src-supplier=Farnell; ComponentLink2URL: http://www.farnell.com/datasheets/2672741.pdf?src-supplier=Newark; ComponentLink2Description: http://www.farnell.com/datasheets/2672741.pdf?src-supplier=Newark; ComponentLink3URL: http://www.farnell.com/datasheets/2015275.pdf?src-supplier=Element14; ComponentLink3Description: http://www.farnell.com/datasheets/2015275.pdf?src-supplier=Element14; ComponentLink4URL: https://www.molex.com/pdm_docs/ps/PS-105448-001.pdf?src-supplier=Digi-Key; ComponentLink4Description: https://www.molex.com/pdm_docs/ps/PS-105448-001.pdf?src-supplier=Digi-Key; ComponentLink5URL: http://www.farnell.com/datasheets/2801634.pdf?src-supplier=Newark; ComponentLink5Description: http://www.farnell.com/datasheets/2801634.pdf?src-supplier=Newark; ComponentLink6URL: https://www.molex.com/pdm_docs/sd/1054500101_sd.pdf?src-supplier=Digi-Key; ComponentLink6Description: https://www.molex.com/pdm_docs/sd/1054500101_sd.pdf?src-supplier=Digi-Key; ComponentLink7URL: http://www.farnell.com/datasheets/2801634.pdf?src-supplier=Element14; ComponentLink7Description: http://www.farnell.com/datasheets/2801634.pdf?src-supplier=Element14; ComponentLink8URL: http://www.literature.molex.com/SQLImages/kelmscott/Molex/PDF_Images/987651-4081.PDF?src-supplier=Avnet; ComponentLink8Description: http://www.literature.molex.com/SQLImages/kelmscott/Molex/PDF_Images/987651-4081.PDF?src-supplier=Avnet; ComponentLink9URL: http://www.literature.molex.com/SQLImages/kelmscott/Molex/PDF_Images/987651-4081.PDF?src-supplier=Avnet+Asia; ComponentLink9Description: http://www.literature.molex.com/SQLImages/kelmscott/Molex/PDF_Images/987651-4081.PDF?src-supplier=Avnet+Asia
footprint USBC-SMD16F
pins: 1 GND, 2 VBUS, 3 SBU2, 4 CC1, 5 DN2, 6 DP1, 7 DN1, 8 DP2, 9 CC2, 10 SBU1, 11 VBUS, 12 GND

## W25QXX
designator U?, comment Flash
footprint 8-Pin SOIC 208-mil
footprint 8-Pin SOIC 150-mil (SOIC, 8-Leads, Body 4.90x3.90mm, Pitch 1.27mm, IPC Medium Density)
pins: 1 ~{CS}, 2 DO, 3 ~{WP}, 4 GND, 5 DI, 6 CLK, 7 ~{HOLD}, 8 VCC

## Xtal
designator X?  value 12MHz
footprint HC-49SM
footprint 2520S
footprint 5032
footprint ABS25
footprint FC-135
footprint X3215
pins: 1, 2